# Altium schematic symbol library conn-micro-SD_0.Schlib: 1 symbol
Pins are listed as number, name and electrical type; pins without a type are passive.

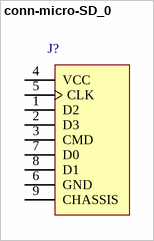
[diagram p0: symbol conn-micro-SD_0]

## conn-micro-SD_0
designator J?  (value not drawn)
MicroSD Card Connector
pins: 1 D2, 2 D3, 3 CMD, 4 VCC, 5 CLK, 6 GND, 7 D0, 8 D1, 9 CHASSIS